# Altium footprint library SAMTEC_FTSH-107-04-L-D.PcbLib: 1 footprints
Each footprint in its own frame and in the unit in brackets; x right, y up, seen from the top. Pads: shape width x height; smd on the part's side, far side on the other; paste and mask are expansions set on the pad; w line width, h text height; cw(c..) or ccw(c..) is an arc to the next point about the centre after c.
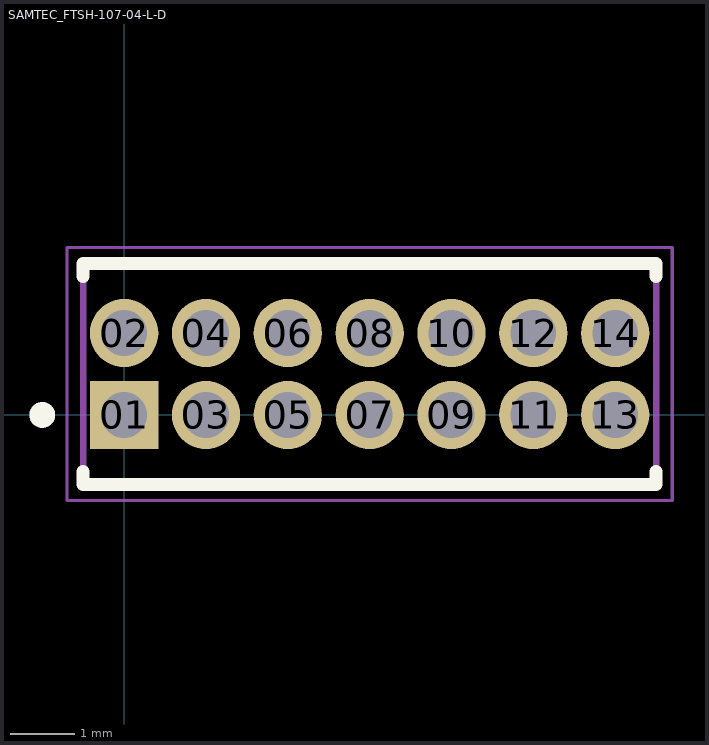
[diagram p0: the footprint, top view; thin cyan lines are the x and y axes]

## SAMTEC_FTSH-107-04-L-D [mm]
pads (14):
  rect 1.06x1.06 / inner round 1.06 / far side rect 1.06x1.06 hole 0.71: 01(0,0)
  round 1.06 hole 0.71: 02(0,1.27) 03(1.27,0) 04(1.27,1.27) 05(2.54,0) 06(2.54,1.27) 07(3.81,0) 08(3.81,1.27) 09(5.08,0) 10(5.08,1.27) 11(6.35,0) 12(6.35,1.27) 13(7.62,0) 14(7.62,1.27)
Top Overlay:
  circle w0.2: c-1.27,0 r0.1
  lines w0.2: -0.635,-0.88 -0.635,-1.08 8.255,-1.08 8.255,-0.88 ; -0.635,2.15 -0.635,2.35 8.255,2.35 8.255,2.15
Mechanical 13:
  circle w0.2: c-1.27,0 r0.1
  lines w0.1: -0.635,-1.08 8.255,-1.08 8.255,2.35 -0.635,2.35 -0.635,-1.08
Mechanical 15:
  lines w0.05: -0.885,-1.33 8.505,-1.33 8.505,2.6 -0.885,2.6 -0.885,-1.33
3D body "step_temp.STEP": height 6.32, standoff -2.29, extent -0.635,-1.079 8.255,2.349